# EAGLE library part XTEND (library SolarJackets_Common)
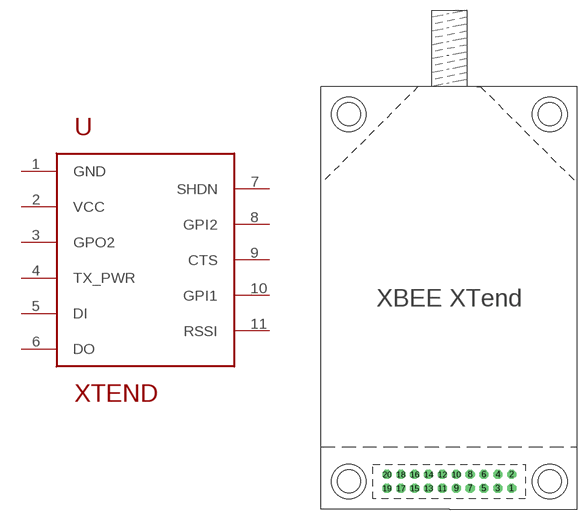
[diagram p14: symbol with the pads of XTEND; footprint XTEND]

Designator prefix -

## XTEND  [XTEND]
1  GND
2  VCC
3  GPO2
4  TX_PWR
5  DI
6  DO
7  SHDN
8  GPI2
9  CTS
10  GPI1
11  RSSI

## Footprint XTEND (pad centres in mm)
drill 0.8 octagon: 1 9,3; 2 9,5; 3 7,3; 4 7,5; 5 5,3; 6 5,5; 7 3,3; 8 3,5; 9 1,3; 10 1,5; 11 -1,3; 12 -1,5; 13 -3,3; 14 -3,5; 15 -5,3; 16 -5,5; 17 -7,3; 18 -7,5; 19 -9,3; 20 -9,5
hole 3.3 at -14.5,57
hole 3.3 at 14.5,57
hole 3.3 at -14.5,4
hole 3.3 at 14.5,4